# Altium integrated library Silicon Labs Capacitive Touch Sense MCUs.IntLib: 96 symbols (part 4 of 5)
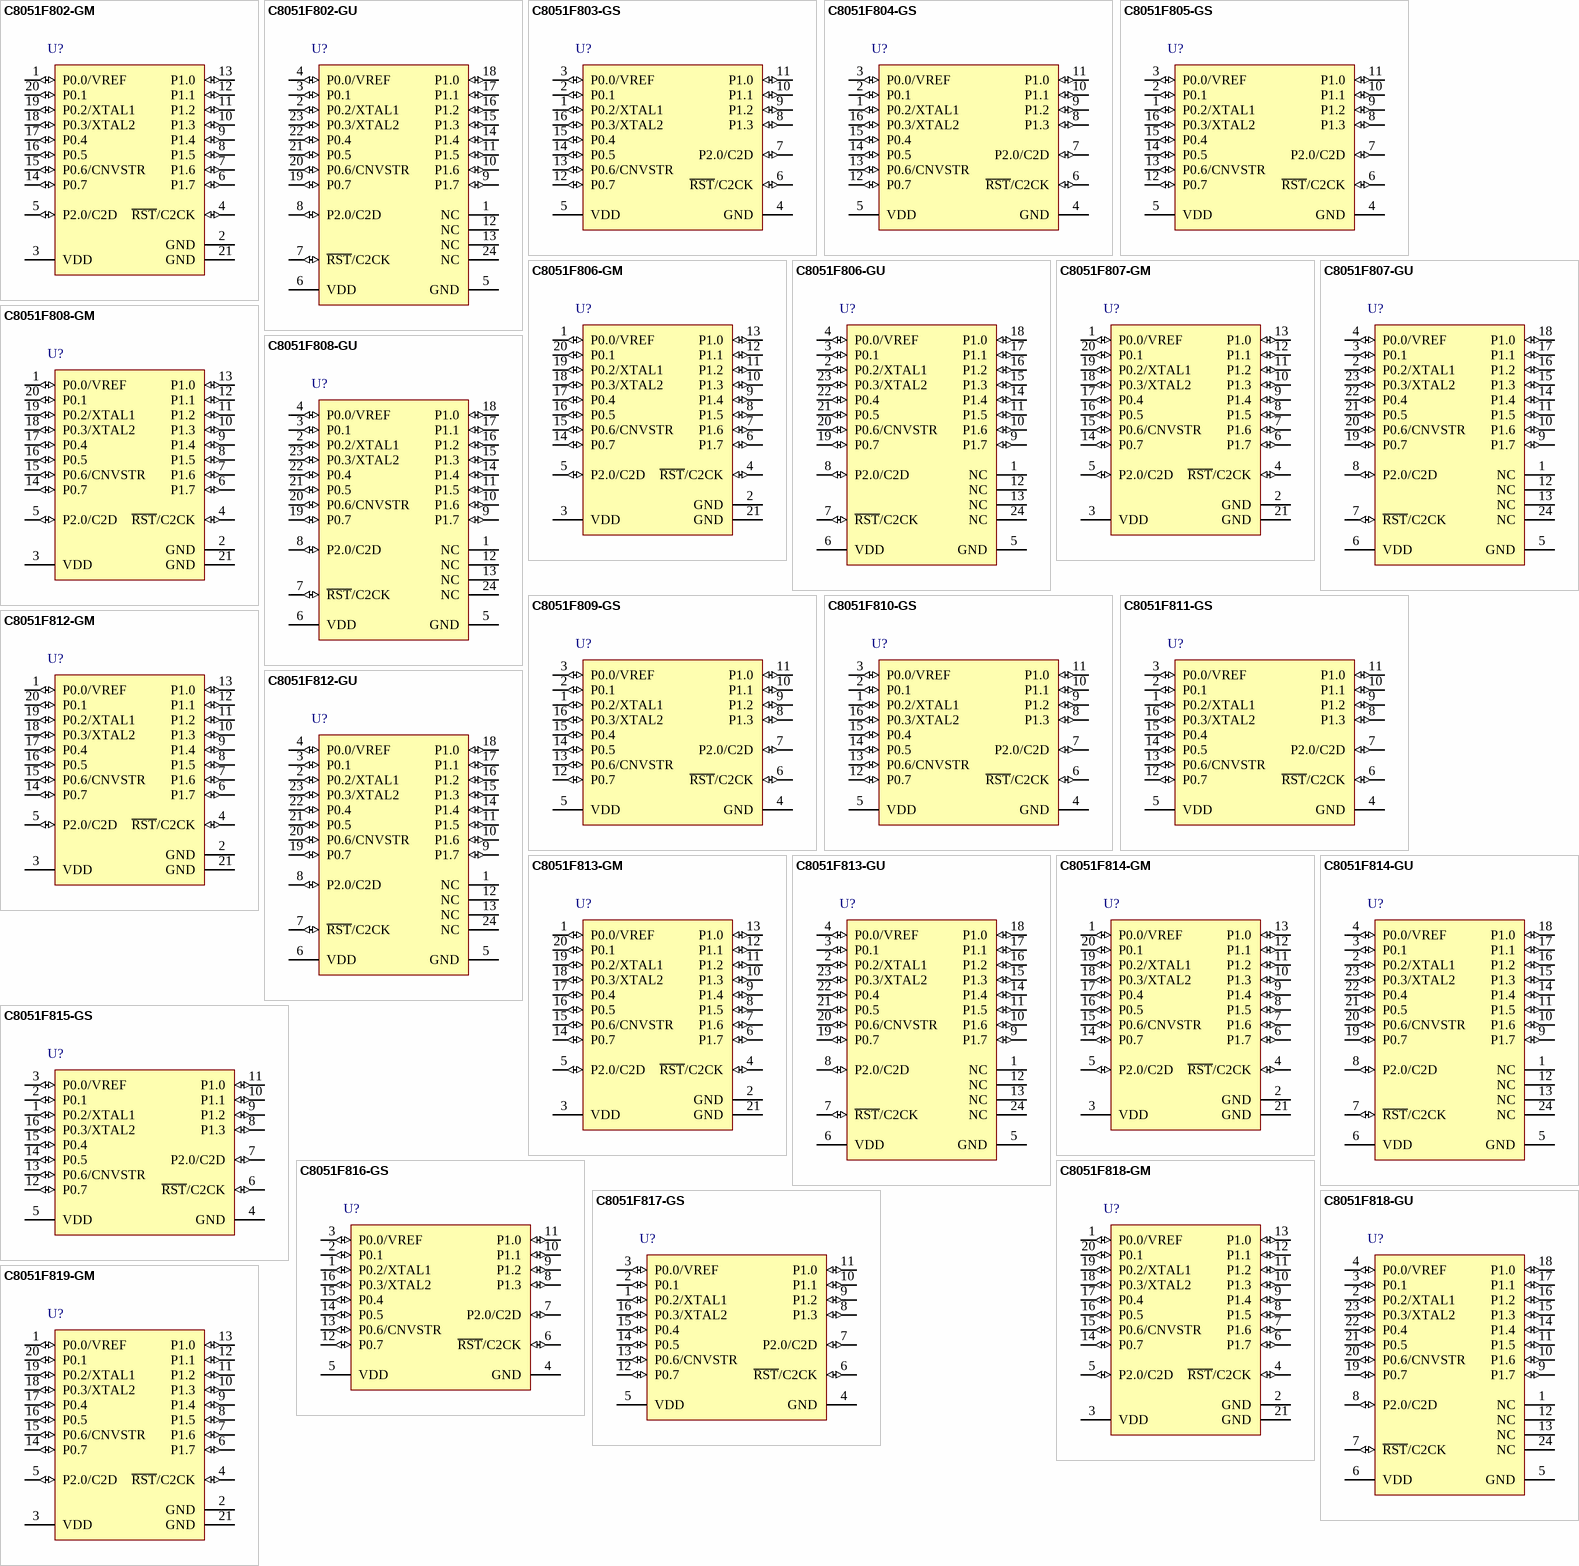
[diagram p9: symbols C8051F802-GM to C8051F819-GM]

## C8051F819-GM
designator U?
Mixed Signal ISP Flash MCU Family, 25 MHz, 0.5 kB RAM, 8 kB Flash, -40 to 85 degC, 20-pin QFN; Manufacturer: Silicon Labs; PartNumber: C8051F819-GM; AEC-Q100: FALSE; Comparators: 1; Debug Interface: C2; Dig I/O Pins: 17; Flash: 8 kB; Internal Osc. Accuracy: +/-2%; MCU Core: 8051; MHz: 25; PCA Channels: 3; RAM: 0.5 kB; Sub-Family: Capacitive Touch Sense MCUs; DatasheetVersion: Rev. 1.0; PackageReference: QFN-20; PackageDescription: 20-Pin Quad-Flat No-Leads Package, Body 4 x 4 mm, Pitch 0.5 mm; Supplier 1: Digi-Key; Supplier Part Number 1: 336-1799-5-ND; Supplier 2: Mouser; Supplier Part Number 2: 634-C8051F819-GM; Temp Sensor: FALSE; Timers (16-bit): 3; Mounting Technology: Surface Mount; Code_JEDEC: MO-220; Code_IPC: J-STD-020; ComponentLink1Description: Manufacturer URL; ComponentLink1URL: http://www.silabs.com/; ComponentLink2Description: Datasheet; ComponentLink2URL: http://www.silabs.com/Support Documents/TechnicalDocs/C8051F80x-83x.pdf; ComponentLink3Description: Package Specification; ComponentLink3URL: http://www.silabs.com/Support%20Documents/TechnicalDocs/C8051F80x-83x.pdf
footprint SLAB-QFN-20-2125x2125TP_N (QFN, 20-Leads, Body 4x4mm, Pitch 0.5mm, Thermal Pad 2.13x2.13mm, IPC Medium Density)
footprint SLAB-QFN-20-2125x2125TP_L (QFN, 20-Leads, Body 4x4mm, Pitch 0.5mm, Thermal Pad 2.13x2.13mm, IPC High Density)
footprint SLAB-QFN-20-2125x2125TP_M (QFN, 20-Leads, Body 4x4mm, Pitch 0.5mm, Thermal Pad 2.13x2.13mm, IPC Low Density)
pins: 1 P0.0/VREF (io), 2 GND (power) "Ground.", 3 VDD (power) "Power Supply Voltage.", 4 ~{RST}/C2CK (io), 5 P2.0/C2D (io), 6 P1.7 (io) "Port 1.7.", 7 P1.6 (io) "Port 1.6.", 8 P1.5 (io) "Port 1.5.", 9 P1.4 (io) "Port 1.4.", 10 P1.3 (io) "Port 1.3.", 11 P1.2 (io) "Port 1.2.", 12 P1.1 (io) "Port 1.1.", 13 P1.0 (io) "Port 1.0.", 14 P0.7 (io) "Port 0.7.", 15 P0.6/CNVSTR (io), 16 P0.5 (io) "Port 0.5.", 17 P0.4 (io) "Port 0.4.", 18 P0.3/XTAL2 (io), 19 P0.2/XTAL1 (io), 20 P0.1 (io) "Port 0.1.", 21 GND (power) "This ground connection is required. The center  pad may optionally be connected to ground as  well on the QFN-20 packages."

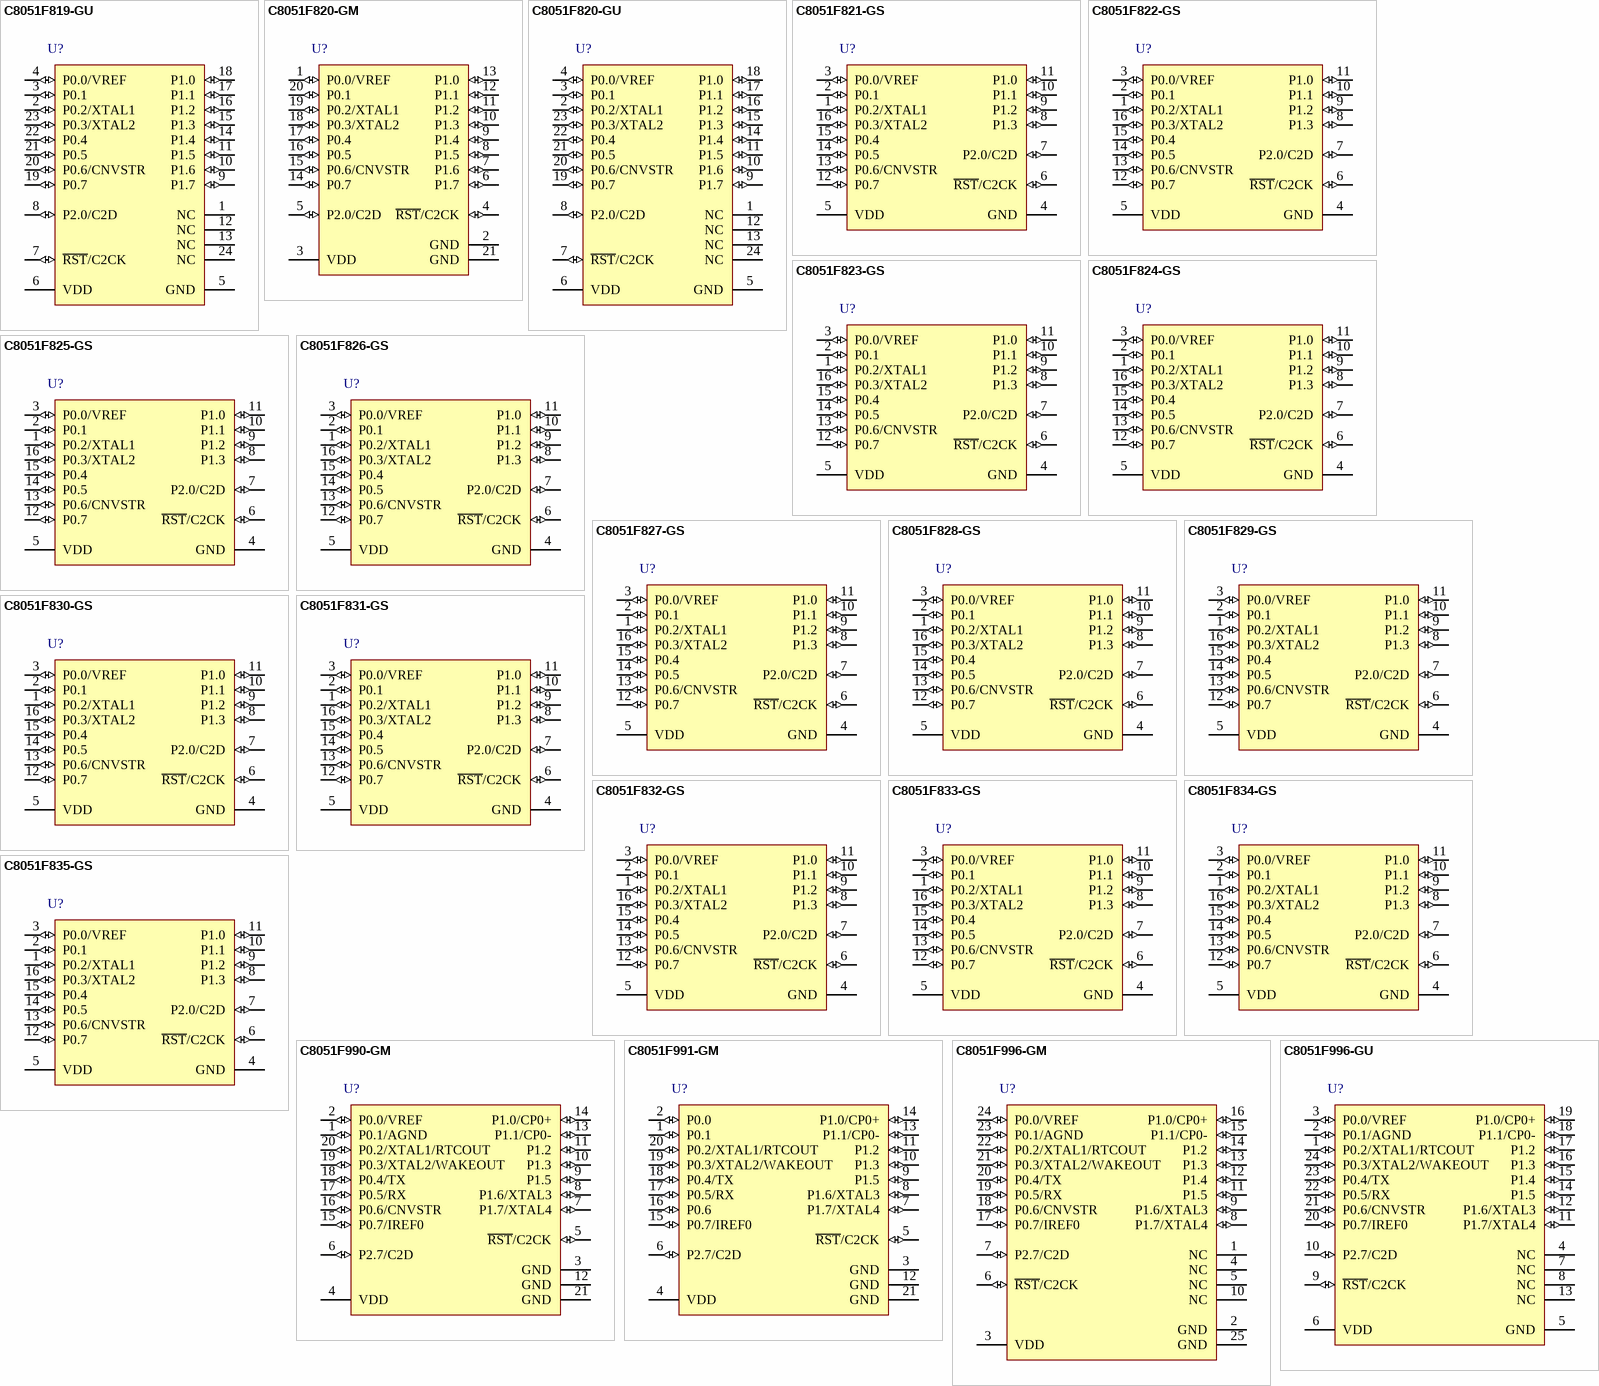
[diagram p3: symbols C8051F819-GU to C8051F996-GU]

## C8051F819-GU
designator U?
Mixed Signal ISP Flash MCU Family, 25 MHz, 0.5 kB RAM, 8 kB Flash, -40 to 85 degC, 24-pin SOP; Manufacturer: Silicon Labs; PartNumber: C8051F819-GU; AEC-Q100: FALSE; Comparators: 1; Debug Interface: C2; Dig I/O Pins: 17; Flash: 8 kB; Internal Osc. Accuracy: +/-2%; MCU Core: 8051; MHz: 25; PCA Channels: 3; RAM: 0.5 kB; Sub-Family: Capacitive Touch Sense MCUs; DatasheetVersion: Rev. 1.0; PackageReference: QSOP-24; PackageDescription: 24-Pin Quarter-Size Small-Outline Package, Body 8.65 x 3.9 mm, Pitch 0.635 mm; Supplier 1: Digi-Key; Supplier Part Number 1: 336-1794-5-ND; Supplier 2: Mouser; Supplier Part Number 2: 634-C8051F819-GU; Temp Sensor: FALSE; Timers (16-bit): 3; Mounting Technology: Surface Mount; Code_JEDEC: MO-147; Code_IPC: J-STD-020; ComponentLink1Description: Manufacturer URL; ComponentLink1URL: http://www.silabs.com/; ComponentLink2Description: Datasheet; ComponentLink2URL: http://www.silabs.com/Support Documents/TechnicalDocs/C8051F80x-83x.pdf; ComponentLink3Description: Package Specification; ComponentLink3URL: http://www.silabs.com/Support%20Documents/TechnicalDocs/C8051F99x.pdf
footprint SLAB-QSOP-24_N (SOP, 24-Leads, Body 8.65x3.9mm, Pitch 0.635mm, IPC Medium Density)
footprint SLAB-QSOP-24_L (SOP, 24-Leads, Body 8.65x3.9mm, Pitch 0.635mm, IPC High Density)
footprint SLAB-QSOP-24_M (SOP, 24-Leads, Body 8.65x3.9mm, Pitch 0.635mm, IPC Low Density)
pins: 1 NC "No Connection.", 2 P0.2/XTAL1 (io), 3 P0.1 (io) "Port 0.1.", 4 P0.0/VREF (io), 5 GND (power) "Ground. This ground connection is required. The center pad may optionally be connected to ground as well on the QFN-20 packages.", 6 VDD (power) "Power Supply Voltage.", 7 ~{RST}/C2CK (io), 8 P2.0/C2D (io), 9 P1.7 (io) "Port 1.7.", 10 P1.6 (io) "Port 1.6.", 11 P1.5 (io) "Port 1.5.", 12 NC "No Connection.", 13 NC "No Connection.", 14 P1.4 (io) "Port 1.4.", 15 P1.3 (io) "Port 1.3.", 16 P1.2 (io) "Port 1.2.", 17 P1.1 (io) "Port 1.1.", 18 P1.0 (io) "Port 1.0.", 19 P0.7 (io) "Port 0.7.", 20 P0.6/CNVSTR (io), 21 P0.5 (io) "Port 0.5.", 22 P0.4 (io) "Port 0.4.", 23 P0.3/XTAL2 (io), 24 NC "No Connection."

## C8051F820-GM
designator U?
Mixed Signal ISP Flash MCU Family, 25 MHz, 0.5 kB RAM, 8 kB Flash, -40 to 85 degC, 20-pin QFN; Manufacturer: Silicon Labs; PartNumber: C8051F820-GM; AEC-Q100: FALSE; Comparators: 1; Debug Interface: C2; Dig I/O Pins: 17; Flash: 8 kB; Internal Osc. Accuracy: +/-2%; MCU Core: 8051; MHz: 25; PCA Channels: 3; RAM: 0.5 kB; Sub-Family: Capacitive Touch Sense MCUs; DatasheetVersion: Rev. 1.0; PackageReference: QFN-20; PackageDescription: 20-Pin Quad-Flat No-Leads Package, Body 4 x 4 mm, Pitch 0.5 mm; Supplier 1: Digi-Key; Supplier Part Number 1: 336-1800-5-ND; Supplier 2: Mouser; Supplier Part Number 2: 634-C8051F820-GM; Temp Sensor: FALSE; Timers (16-bit): 3; Mounting Technology: Surface Mount; Code_JEDEC: MO-220; Code_IPC: J-STD-020; ComponentLink1Description: Manufacturer URL; ComponentLink1URL: http://www.silabs.com/; ComponentLink2Description: Datasheet; ComponentLink2URL: http://www.silabs.com/Support Documents/TechnicalDocs/C8051F80x-83x.pdf; ComponentLink3Description: Package Specification; ComponentLink3URL: http://www.silabs.com/Support%20Documents/TechnicalDocs/C8051F80x-83x.pdf
footprint SLAB-QFN-20-2125x2125TP_N (QFN, 20-Leads, Body 4x4mm, Pitch 0.5mm, Thermal Pad 2.13x2.13mm, IPC Medium Density)
footprint SLAB-QFN-20-2125x2125TP_L (QFN, 20-Leads, Body 4x4mm, Pitch 0.5mm, Thermal Pad 2.13x2.13mm, IPC High Density)
footprint SLAB-QFN-20-2125x2125TP_M (QFN, 20-Leads, Body 4x4mm, Pitch 0.5mm, Thermal Pad 2.13x2.13mm, IPC Low Density)
pins: 1 P0.0/VREF (io), 2 GND (power) "Ground.", 3 VDD (power) "Power Supply Voltage.", 4 ~{RST}/C2CK (io), 5 P2.0/C2D (io), 6 P1.7 (io) "Port 1.7.", 7 P1.6 (io) "Port 1.6.", 8 P1.5 (io) "Port 1.5.", 9 P1.4 (io) "Port 1.4.", 10 P1.3 (io) "Port 1.3.", 11 P1.2 (io) "Port 1.2.", 12 P1.1 (io) "Port 1.1.", 13 P1.0 (io) "Port 1.0.", 14 P0.7 (io) "Port 0.7.", 15 P0.6/CNVSTR (io), 16 P0.5 (io) "Port 0.5.", 17 P0.4 (io) "Port 0.4.", 18 P0.3/XTAL2 (io), 19 P0.2/XTAL1 (io), 20 P0.1 (io) "Port 0.1.", 21 GND (power) "This ground connection is required. The center  pad may optionally be connected to ground as  well on the QFN-20 packages."

## C8051F820-GU
designator U?
Mixed Signal ISP Flash MCU Family, 25 MHz, 0.5 kB RAM, 8 kB Flash, -40 to 85 degC, 24-pin SOP; Manufacturer: Silicon Labs; PartNumber: C8051F820-GU; AEC-Q100: FALSE; Comparators: 1; Debug Interface: C2; Dig I/O Pins: 17; Flash: 8 kB; Internal Osc. Accuracy: +/-2%; MCU Core: 8051; MHz: 25; PCA Channels: 3; RAM: 0.5 kB; Sub-Family: Capacitive Touch Sense MCUs; DatasheetVersion: Rev. 1.0; PackageReference: QSOP-24; PackageDescription: 24-Pin Quarter-Size Small-Outline Package, Body 8.65 x 3.9 mm, Pitch 0.635 mm; Supplier 1: Digi-Key; Supplier Part Number 1: 336-1795-5-ND; Supplier 2: Mouser; Supplier Part Number 2: 634-C8051F820-GU; Temp Sensor: FALSE; Timers (16-bit): 3; Mounting Technology: Surface Mount; Code_JEDEC: MO-147; Code_IPC: J-STD-020; ComponentLink1Description: Manufacturer URL; ComponentLink1URL: http://www.silabs.com/; ComponentLink2Description: Datasheet; ComponentLink2URL: http://www.silabs.com/Support Documents/TechnicalDocs/C8051F80x-83x.pdf; ComponentLink3Description: Package Specification; ComponentLink3URL: http://www.silabs.com/Support%20Documents/TechnicalDocs/C8051F99x.pdf
footprint SLAB-QSOP-24_N (SOP, 24-Leads, Body 8.65x3.9mm, Pitch 0.635mm, IPC Medium Density)
footprint SLAB-QSOP-24_L (SOP, 24-Leads, Body 8.65x3.9mm, Pitch 0.635mm, IPC High Density)
footprint SLAB-QSOP-24_M (SOP, 24-Leads, Body 8.65x3.9mm, Pitch 0.635mm, IPC Low Density)
pins: 1 NC "No Connection.", 2 P0.2/XTAL1 (io), 3 P0.1 (io) "Port 0.1.", 4 P0.0/VREF (io), 5 GND (power) "Ground. This ground connection is required. The center pad may optionally be connected to ground as well on the QFN-20 packages.", 6 VDD (power) "Power Supply Voltage.", 7 ~{RST}/C2CK (io), 8 P2.0/C2D (io), 9 P1.7 (io) "Port 1.7.", 10 P1.6 (io) "Port 1.6.", 11 P1.5 (io) "Port 1.5.", 12 NC "No Connection.", 13 NC "No Connection.", 14 P1.4 (io) "Port 1.4.", 15 P1.3 (io) "Port 1.3.", 16 P1.2 (io) "Port 1.2.", 17 P1.1 (io) "Port 1.1.", 18 P1.0 (io) "Port 1.0.", 19 P0.7 (io) "Port 0.7.", 20 P0.6/CNVSTR (io), 21 P0.5 (io) "Port 0.5.", 22 P0.4 (io) "Port 0.4.", 23 P0.3/XTAL2 (io), 24 NC "No Connection."

## C8051F821-GS
designator U?
Mixed Signal ISP Flash MCU Family, 25 MHz, 0.5 kB RAM, 8 kB Flash, -40 to 85 degC, 16-pin SOIC; Manufacturer: Silicon Labs; PartNumber: C8051F821-GS; AEC-Q100: FALSE; Comparators: 1; Debug Interface: C2; Dig I/O Pins: 13; Flash: 8 kB; Internal Osc. Accuracy: +/-2%; MCU Core: 8051; MHz: 25; PCA Channels: 3; RAM: 0.5 kB; Sub-Family: Capacitive Touch Sense MCUs; DatasheetVersion: Rev. 1.0; PackageReference: SOIC-16-NB; PackageDescription: 16-Pin Small-Outline Integrated Circuit, Body 9.9 x 3.9 mm, Pitch 1.27 mm; Supplier 1: Digi-Key; Supplier Part Number 1: 336-1801-5-ND; Supplier 2: Mouser; Supplier Part Number 2: 634-C8051F821-GS; Temp Sensor: FALSE; Timers (16-bit): 3; Mounting Technology: Surface Mount; Code_JEDEC: MS-012; Code_IPC: J-STD-020; ComponentLink1Description: Manufacturer URL; ComponentLink1URL: http://www.silabs.com/; ComponentLink2Description: Datasheet; ComponentLink2URL: http://www.silabs.com/Support Documents/TechnicalDocs/C8051F80x-83x.pdf; ComponentLink3Description: Package Specification; ComponentLink3URL: http://www.silabs.com/Support%20Documents/TechnicalDocs/si2401.pdf
footprint SLAB-SOIC-16-NB_N (SOIC, 16-Leads, Body 9.9x3.9mm, Pitch 1.27mm, IPC Medium Density)
footprint SLAB-SOIC-16-NB_L (SOIC, 16-Leads, Body 9.9x3.9mm, Pitch 1.27mm, IPC High Density)
footprint SLAB-SOIC-16-NB_M (SOIC, 16-Leads, Body 9.9x3.9mm, Pitch 1.27mm, IPC Low Density)
pins: 1 P0.2/XTAL1 (io), 2 P0.1 (io) "Port 0.1.", 3 P0.0/VREF (io), 4 GND (power) "Ground.", 5 VDD (power) "Power Supply Voltage.", 6 ~{RST}/C2CK (io), 7 P2.0/C2D (io), 8 P1.3 (io) "Port 1.3.", 9 P1.2 (io) "Port 1.2.", 10 P1.1 (io) "Port 1.1.", 11 P1.0 (io) "Port 1.0.", 12 P0.7 (io) "Port 0.7.", 13 P0.6/CNVSTR (io), 14 P0.5 (io) "Port 0.5.", 15 P0.4 (io) "Port 0.4.", 16 P0.3/XTAL2 (io)

## C8051F822-GS
designator U?
Mixed Signal ISP Flash MCU Family, 25 MHz, 0.5 kB RAM, 8 kB Flash, -40 to 85 degC, 16-pin SOIC; Manufacturer: Silicon Labs; PartNumber: C8051F822-GS; AEC-Q100: FALSE; Comparators: 1; Debug Interface: C2; Dig I/O Pins: 13; Flash: 8 kB; Internal Osc. Accuracy: +/-2%; MCU Core: 8051; MHz: 25; PCA Channels: 3; RAM: 0.5 kB; Sub-Family: Capacitive Touch Sense MCUs; DatasheetVersion: Rev. 1.0; PackageReference: SOIC-16-NB; PackageDescription: 16-Pin Small-Outline Integrated Circuit, Body 9.9 x 3.9 mm, Pitch 1.27 mm; Supplier 1: Digi-Key; Supplier Part Number 1: 336-1802-5-ND; Supplier 2: Mouser; Supplier Part Number 2: 634-C8051F822-GS; Temp Sensor: FALSE; Timers (16-bit): 3; Mounting Technology: Surface Mount; Code_JEDEC: MS-012; Code_IPC: J-STD-020; ComponentLink1Description: Manufacturer URL; ComponentLink1URL: http://www.silabs.com/; ComponentLink2Description: Datasheet; ComponentLink2URL: http://www.silabs.com/Support Documents/TechnicalDocs/C8051F80x-83x.pdf; ComponentLink3Description: Package Specification; ComponentLink3URL: http://www.silabs.com/Support%20Documents/TechnicalDocs/si2401.pdf
footprint SLAB-SOIC-16-NB_N (SOIC, 16-Leads, Body 9.9x3.9mm, Pitch 1.27mm, IPC Medium Density)
footprint SLAB-SOIC-16-NB_L (SOIC, 16-Leads, Body 9.9x3.9mm, Pitch 1.27mm, IPC High Density)
footprint SLAB-SOIC-16-NB_M (SOIC, 16-Leads, Body 9.9x3.9mm, Pitch 1.27mm, IPC Low Density)
pins: 1 P0.2/XTAL1 (io), 2 P0.1 (io) "Port 0.1.", 3 P0.0/VREF (io), 4 GND (power) "Ground.", 5 VDD (power) "Power Supply Voltage.", 6 ~{RST}/C2CK (io), 7 P2.0/C2D (io), 8 P1.3 (io) "Port 1.3.", 9 P1.2 (io) "Port 1.2.", 10 P1.1 (io) "Port 1.1.", 11 P1.0 (io) "Port 1.0.", 12 P0.7 (io) "Port 0.7.", 13 P0.6/CNVSTR (io), 14 P0.5 (io) "Port 0.5.", 15 P0.4 (io) "Port 0.4.", 16 P0.3/XTAL2 (io)

## C8051F823-GS
designator U?
Mixed Signal ISP Flash MCU Family, 25 MHz, 0.5 kB RAM, 8 kB Flash, -40 to 85 degC, 16-pin SOIC; Manufacturer: Silicon Labs; PartNumber: C8051F823-GS; AEC-Q100: FALSE; Comparators: 1; Debug Interface: C2; Dig I/O Pins: 13; Flash: 8 kB; Internal Osc. Accuracy: +/-2%; MCU Core: 8051; MHz: 25; PCA Channels: 3; RAM: 0.5 kB; Sub-Family: Capacitive Touch Sense MCUs; DatasheetVersion: Rev. 1.0; PackageReference: SOIC-16-NB; PackageDescription: 16-Pin Small-Outline Integrated Circuit, Body 9.9 x 3.9 mm, Pitch 1.27 mm; Supplier 1: Digi-Key; Supplier Part Number 1: 336-1803-5-ND; Supplier 2: Mouser; Supplier Part Number 2: 634-C8051F823-GS; Temp Sensor: FALSE; Timers (16-bit): 3; Mounting Technology: Surface Mount; Code_JEDEC: MS-012; Code_IPC: J-STD-020; ComponentLink1Description: Manufacturer URL; ComponentLink1URL: http://www.silabs.com/; ComponentLink2Description: Datasheet; ComponentLink2URL: http://www.silabs.com/Support Documents/TechnicalDocs/C8051F80x-83x.pdf; ComponentLink3Description: Package Specification; ComponentLink3URL: http://www.silabs.com/Support%20Documents/TechnicalDocs/si2401.pdf
footprint SLAB-SOIC-16-NB_N (SOIC, 16-Leads, Body 9.9x3.9mm, Pitch 1.27mm, IPC Medium Density)
footprint SLAB-SOIC-16-NB_L (SOIC, 16-Leads, Body 9.9x3.9mm, Pitch 1.27mm, IPC High Density)
footprint SLAB-SOIC-16-NB_M (SOIC, 16-Leads, Body 9.9x3.9mm, Pitch 1.27mm, IPC Low Density)
pins: 1 P0.2/XTAL1 (io), 2 P0.1 (io) "Port 0.1.", 3 P0.0/VREF (io), 4 GND (power) "Ground.", 5 VDD (power) "Power Supply Voltage.", 6 ~{RST}/C2CK (io), 7 P2.0/C2D (io), 8 P1.3 (io) "Port 1.3.", 9 P1.2 (io) "Port 1.2.", 10 P1.1 (io) "Port 1.1.", 11 P1.0 (io) "Port 1.0.", 12 P0.7 (io) "Port 0.7.", 13 P0.6/CNVSTR (io), 14 P0.5 (io) "Port 0.5.", 15 P0.4 (io) "Port 0.4.", 16 P0.3/XTAL2 (io)

## C8051F824-GS
designator U?
Mixed Signal ISP Flash MCU Family, 25 MHz, 0.25 kB RAM, 8 kB Flash, -40 to 85 degC, 16-pin SOIC; Manufacturer: Silicon Labs; PartNumber: C8051F824-GS; ADC 1: 10-bit, 12-ch., 500 ksps; AEC-Q100: FALSE; Comparators: 1; Debug Interface: C2; Dig I/O Pins: 13; Flash: 8 kB; Internal Osc. Accuracy: +/-2%; MCU Core: 8051; MHz: 25; PCA Channels: 3; RAM: 0.25 kB; Temp Sensor: TRUE; Sub-Family: Capacitive Touch Sense MCUs; DatasheetVersion: Rev. 1.0; PackageReference: SOIC-16-NB; PackageDescription: 16-Pin Small-Outline Integrated Circuit, Body 9.9 x 3.9 mm, Pitch 1.27 mm; Supplier 1: Digi-Key; Supplier Part Number 1: 336-1804-5-ND; Supplier 2: Mouser; Supplier Part Number 2: 634-C8051F824-GS; Timers (16-bit): 3; Mounting Technology: Surface Mount; Code_JEDEC: MS-012; Code_IPC: J-STD-020; ComponentLink1Description: Manufacturer URL; ComponentLink1URL: http://www.silabs.com/; ComponentLink2Description: Datasheet; ComponentLink2URL: http://www.silabs.com/Support Documents/TechnicalDocs/C8051F80x-83x.pdf; ComponentLink3Description: Package Specification; ComponentLink3URL: http://www.silabs.com/Support%20Documents/TechnicalDocs/si2401.pdf
footprint SLAB-SOIC-16-NB_N (SOIC, 16-Leads, Body 9.9x3.9mm, Pitch 1.27mm, IPC Medium Density)
footprint SLAB-SOIC-16-NB_L (SOIC, 16-Leads, Body 9.9x3.9mm, Pitch 1.27mm, IPC High Density)
footprint SLAB-SOIC-16-NB_M (SOIC, 16-Leads, Body 9.9x3.9mm, Pitch 1.27mm, IPC Low Density)
pins: 1 P0.2/XTAL1 (io), 2 P0.1 (io) "Port 0.1.", 3 P0.0/VREF (io), 4 GND (power) "Ground.", 5 VDD (power) "Power Supply Voltage.", 6 ~{RST}/C2CK (io), 7 P2.0/C2D (io), 8 P1.3 (io) "Port 1.3.", 9 P1.2 (io) "Port 1.2.", 10 P1.1 (io) "Port 1.1.", 11 P1.0 (io) "Port 1.0.", 12 P0.7 (io) "Port 0.7.", 13 P0.6/CNVSTR (io), 14 P0.5 (io) "Port 0.5.", 15 P0.4 (io) "Port 0.4.", 16 P0.3/XTAL2 (io)

## C8051F825-GS
designator U?
Mixed Signal ISP Flash MCU Family, 25 MHz, 0.25 kB RAM, 8 kB Flash, -40 to 85 degC, 16-pin SOIC; Manufacturer: Silicon Labs; PartNumber: C8051F825-GS; ADC 1: 10-bit, 12-ch., 500 ksps; AEC-Q100: FALSE; Comparators: 1; Debug Interface: C2; Dig I/O Pins: 13; Flash: 8 kB; Internal Osc. Accuracy: +/-2%; MCU Core: 8051; MHz: 25; PCA Channels: 3; RAM: 0.25 kB; Temp Sensor: TRUE; Sub-Family: Capacitive Touch Sense MCUs; DatasheetVersion: Rev. 1.0; PackageReference: SOIC-16-NB; PackageDescription: 16-Pin Small-Outline Integrated Circuit, Body 9.9 x 3.9 mm, Pitch 1.27 mm; Supplier 1: Digi-Key; Supplier Part Number 1: 336-1805-5-ND; Supplier 2: Mouser; Supplier Part Number 2: 634-C8051F825-GS; Timers (16-bit): 3; Mounting Technology: Surface Mount; Code_JEDEC: MS-012; Code_IPC: J-STD-020; ComponentLink1Description: Manufacturer URL; ComponentLink1URL: http://www.silabs.com/; ComponentLink2Description: Datasheet; ComponentLink2URL: http://www.silabs.com/Support Documents/TechnicalDocs/C8051F80x-83x.pdf; ComponentLink3Description: Package Specification; ComponentLink3URL: http://www.silabs.com/Support%20Documents/TechnicalDocs/si2401.pdf
footprint SLAB-SOIC-16-NB_N (SOIC, 16-Leads, Body 9.9x3.9mm, Pitch 1.27mm, IPC Medium Density)
footprint SLAB-SOIC-16-NB_L (SOIC, 16-Leads, Body 9.9x3.9mm, Pitch 1.27mm, IPC High Density)
footprint SLAB-SOIC-16-NB_M (SOIC, 16-Leads, Body 9.9x3.9mm, Pitch 1.27mm, IPC Low Density)
pins: 1 P0.2/XTAL1 (io), 2 P0.1 (io) "Port 0.1.", 3 P0.0/VREF (io), 4 GND (power) "Ground.", 5 VDD (power) "Power Supply Voltage.", 6 ~{RST}/C2CK (io), 7 P2.0/C2D (io), 8 P1.3 (io) "Port 1.3.", 9 P1.2 (io) "Port 1.2.", 10 P1.1 (io) "Port 1.1.", 11 P1.0 (io) "Port 1.0.", 12 P0.7 (io) "Port 0.7.", 13 P0.6/CNVSTR (io), 14 P0.5 (io) "Port 0.5.", 15 P0.4 (io) "Port 0.4.", 16 P0.3/XTAL2 (io)

## C8051F826-GS
designator U?
Mixed Signal ISP Flash MCU Family, 25 MHz, 0.25 kB RAM, 8 kB Flash, -40 to 85 degC, 16-pin SOIC; Manufacturer: Silicon Labs; PartNumber: C8051F826-GS; ADC 1: 10-bit, 12-ch., 500 ksps; AEC-Q100: FALSE; Comparators: 1; Debug Interface: C2; Dig I/O Pins: 13; Flash: 8 kB; Internal Osc. Accuracy: +/-2%; MCU Core: 8051; MHz: 25; PCA Channels: 3; RAM: 0.25 kB; Temp Sensor: TRUE; Sub-Family: Capacitive Touch Sense MCUs; DatasheetVersion: Rev. 1.0; PackageReference: SOIC-16-NB; PackageDescription: 16-Pin Small-Outline Integrated Circuit, Body 9.9 x 3.9 mm, Pitch 1.27 mm; Supplier 1: Digi-Key; Supplier Part Number 1: 336-1806-5-ND; Supplier 2: Mouser; Supplier Part Number 2: 634-C8051F826-GS; Timers (16-bit): 3; Mounting Technology: Surface Mount; Code_JEDEC: MS-012; Code_IPC: J-STD-020; ComponentLink1Description: Manufacturer URL; ComponentLink1URL: http://www.silabs.com/; ComponentLink2Description: Datasheet; ComponentLink2URL: http://www.silabs.com/Support Documents/TechnicalDocs/C8051F80x-83x.pdf; ComponentLink3Description: Package Specification; ComponentLink3URL: http://www.silabs.com/Support%20Documents/TechnicalDocs/si2401.pdf
footprint SLAB-SOIC-16-NB_N (SOIC, 16-Leads, Body 9.9x3.9mm, Pitch 1.27mm, IPC Medium Density)
footprint SLAB-SOIC-16-NB_L (SOIC, 16-Leads, Body 9.9x3.9mm, Pitch 1.27mm, IPC High Density)
footprint SLAB-SOIC-16-NB_M (SOIC, 16-Leads, Body 9.9x3.9mm, Pitch 1.27mm, IPC Low Density)
pins: 1 P0.2/XTAL1 (io), 2 P0.1 (io) "Port 0.1.", 3 P0.0/VREF (io), 4 GND (power) "Ground.", 5 VDD (power) "Power Supply Voltage.", 6 ~{RST}/C2CK (io), 7 P2.0/C2D (io), 8 P1.3 (io) "Port 1.3.", 9 P1.2 (io) "Port 1.2.", 10 P1.1 (io) "Port 1.1.", 11 P1.0 (io) "Port 1.0.", 12 P0.7 (io) "Port 0.7.", 13 P0.6/CNVSTR (io), 14 P0.5 (io) "Port 0.5.", 15 P0.4 (io) "Port 0.4.", 16 P0.3/XTAL2 (io)

## C8051F827-GS
designator U?
Mixed Signal ISP Flash MCU Family, 25 MHz, 0.25 kB RAM, 8 kB Flash, -40 to 85 degC, 16-pin SOIC; Manufacturer: Silicon Labs; PartNumber: C8051F827-GS; AEC-Q100: FALSE; Comparators: 1; Debug Interface: C2; Dig I/O Pins: 13; Flash: 8 kB; Internal Osc. Accuracy: +/-2%; MCU Core: 8051; MHz: 25; PCA Channels: 3; RAM: 0.25 kB; Sub-Family: Capacitive Touch Sense MCUs; DatasheetVersion: Rev. 1.0; PackageReference: SOIC-16-NB; PackageDescription: 16-Pin Small-Outline Integrated Circuit, Body 9.9 x 3.9 mm, Pitch 1.27 mm; Supplier 1: Digi-Key; Supplier Part Number 1: 336-1807-5-ND; Supplier 2: Mouser; Supplier Part Number 2: 634-C8051F827-GS; Temp Sensor: FALSE; Timers (16-bit): 3; Mounting Technology: Surface Mount; Code_JEDEC: MS-012; Code_IPC: J-STD-020; ComponentLink1Description: Manufacturer URL; ComponentLink1URL: http://www.silabs.com/; ComponentLink2Description: Datasheet; ComponentLink2URL: http://www.silabs.com/Support Documents/TechnicalDocs/C8051F80x-83x.pdf; ComponentLink3Description: Package Specification; ComponentLink3URL: http://www.silabs.com/Support%20Documents/TechnicalDocs/si2401.pdf
footprint SLAB-SOIC-16-NB_N (SOIC, 16-Leads, Body 9.9x3.9mm, Pitch 1.27mm, IPC Medium Density)
footprint SLAB-SOIC-16-NB_L (SOIC, 16-Leads, Body 9.9x3.9mm, Pitch 1.27mm, IPC High Density)
footprint SLAB-SOIC-16-NB_M (SOIC, 16-Leads, Body 9.9x3.9mm, Pitch 1.27mm, IPC Low Density)
pins: 1 P0.2/XTAL1 (io), 2 P0.1 (io) "Port 0.1.", 3 P0.0/VREF (io), 4 GND (power) "Ground.", 5 VDD (power) "Power Supply Voltage.", 6 ~{RST}/C2CK (io), 7 P2.0/C2D (io), 8 P1.3 (io) "Port 1.3.", 9 P1.2 (io) "Port 1.2.", 10 P1.1 (io) "Port 1.1.", 11 P1.0 (io) "Port 1.0.", 12 P0.7 (io) "Port 0.7.", 13 P0.6/CNVSTR (io), 14 P0.5 (io) "Port 0.5.", 15 P0.4 (io) "Port 0.4.", 16 P0.3/XTAL2 (io)

## C8051F828-GS
designator U?
Mixed Signal ISP Flash MCU Family, 25 MHz, 0.25 kB RAM, 8 kB Flash, -40 to 85 degC, 16-pin SOIC; Manufacturer: Silicon Labs; PartNumber: C8051F828-GS; AEC-Q100: FALSE; Comparators: 1; Debug Interface: C2; Dig I/O Pins: 13; Flash: 8 kB; Internal Osc. Accuracy: +/-2%; MCU Core: 8051; MHz: 25; PCA Channels: 3; RAM: 0.25 kB; Sub-Family: Capacitive Touch Sense MCUs; DatasheetVersion: Rev. 1.0; PackageReference: SOIC-16-NB; PackageDescription: 16-Pin Small-Outline Integrated Circuit, Body 9.9 x 3.9 mm, Pitch 1.27 mm; Supplier 1: Digi-Key; Supplier Part Number 1: 336-1808-5-ND; Supplier 2: Mouser; Supplier Part Number 2: 634-C8051F828-GS; Temp Sensor: FALSE; Timers (16-bit): 3; Mounting Technology: Surface Mount; Code_JEDEC: MS-012; Code_IPC: J-STD-020; ComponentLink1Description: Manufacturer URL; ComponentLink1URL: http://www.silabs.com/; ComponentLink2Description: Datasheet; ComponentLink2URL: http://www.silabs.com/Support Documents/TechnicalDocs/C8051F80x-83x.pdf; ComponentLink3Description: Package Specification; ComponentLink3URL: http://www.silabs.com/Support%20Documents/TechnicalDocs/si2401.pdf
footprint SLAB-SOIC-16-NB_N (SOIC, 16-Leads, Body 9.9x3.9mm, Pitch 1.27mm, IPC Medium Density)
footprint SLAB-SOIC-16-NB_L (SOIC, 16-Leads, Body 9.9x3.9mm, Pitch 1.27mm, IPC High Density)
footprint SLAB-SOIC-16-NB_M (SOIC, 16-Leads, Body 9.9x3.9mm, Pitch 1.27mm, IPC Low Density)
pins: 1 P0.2/XTAL1 (io), 2 P0.1 (io) "Port 0.1.", 3 P0.0/VREF (io), 4 GND (power) "Ground.", 5 VDD (power) "Power Supply Voltage.", 6 ~{RST}/C2CK (io), 7 P2.0/C2D (io), 8 P1.3 (io) "Port 1.3.", 9 P1.2 (io) "Port 1.2.", 10 P1.1 (io) "Port 1.1.", 11 P1.0 (io) "Port 1.0.", 12 P0.7 (io) "Port 0.7.", 13 P0.6/CNVSTR (io), 14 P0.5 (io) "Port 0.5.", 15 P0.4 (io) "Port 0.4.", 16 P0.3/XTAL2 (io)

## C8051F829-GS
designator U?
Mixed Signal ISP Flash MCU Family, 25 MHz, 0.25 kB RAM, 8 kB Flash, -40 to 85 degC, 16-pin SOIC; Manufacturer: Silicon Labs; PartNumber: C8051F829-GS; AEC-Q100: FALSE; Comparators: 1; Debug Interface: C2; Dig I/O Pins: 13; Flash: 8 kB; Internal Osc. Accuracy: +/-2%; MCU Core: 8051; MHz: 25; PCA Channels: 3; RAM: 0.25 kB; Sub-Family: Capacitive Touch Sense MCUs; DatasheetVersion: Rev. 1.0; PackageReference: SOIC-16-NB; PackageDescription: 16-Pin Small-Outline Integrated Circuit, Body 9.9 x 3.9 mm, Pitch 1.27 mm; Supplier 1: Digi-Key; Supplier Part Number 1: 336-1809-5-ND; Supplier 2: Mouser; Supplier Part Number 2: 634-C8051F829-GS; Temp Sensor: FALSE; Timers (16-bit): 3; Mounting Technology: Surface Mount; Code_JEDEC: MS-012; Code_IPC: J-STD-020; ComponentLink1Description: Manufacturer URL; ComponentLink1URL: http://www.silabs.com/; ComponentLink2Description: Datasheet; ComponentLink2URL: http://www.silabs.com/Support Documents/TechnicalDocs/C8051F80x-83x.pdf; ComponentLink3Description: Package Specification; ComponentLink3URL: http://www.silabs.com/Support%20Documents/TechnicalDocs/si2401.pdf
footprint SLAB-SOIC-16-NB_N (SOIC, 16-Leads, Body 9.9x3.9mm, Pitch 1.27mm, IPC Medium Density)
footprint SLAB-SOIC-16-NB_L (SOIC, 16-Leads, Body 9.9x3.9mm, Pitch 1.27mm, IPC High Density)
footprint SLAB-SOIC-16-NB_M (SOIC, 16-Leads, Body 9.9x3.9mm, Pitch 1.27mm, IPC Low Density)
pins: 1 P0.2/XTAL1 (io), 2 P0.1 (io) "Port 0.1.", 3 P0.0/VREF (io), 4 GND (power) "Ground.", 5 VDD (power) "Power Supply Voltage.", 6 ~{RST}/C2CK (io), 7 P2.0/C2D (io), 8 P1.3 (io) "Port 1.3.", 9 P1.2 (io) "Port 1.2.", 10 P1.1 (io) "Port 1.1.", 11 P1.0 (io) "Port 1.0.", 12 P0.7 (io) "Port 0.7.", 13 P0.6/CNVSTR (io), 14 P0.5 (io) "Port 0.5.", 15 P0.4 (io) "Port 0.4.", 16 P0.3/XTAL2 (io)

## C8051F830-GS
designator U?
Mixed Signal ISP Flash MCU Family, 25 MHz, 0.25 kB RAM, 4 kB Flash, -40 to 85 degC, 16-pin SOIC; Manufacturer: Silicon Labs; PartNumber: C8051F830-GS; ADC 1: 10-bit, 12-ch., 500 ksps; AEC-Q100: FALSE; Comparators: 1; Debug Interface: C2; Dig I/O Pins: 13; Flash: 4 kB; Internal Osc. Accuracy: +/-2%; MCU Core: 8051; MHz: 25; PCA Channels: 3; RAM: 0.25 kB; Temp Sensor: TRUE; Sub-Family: Capacitive Touch Sense MCUs; DatasheetVersion: Rev. 1.0; PackageReference: SOIC-16-NB; PackageDescription: 16-Pin Small-Outline Integrated Circuit, Body 9.9 x 3.9 mm, Pitch 1.27 mm; Supplier 1: Digi-Key; Supplier Part Number 1: 336-1810-5-ND; Supplier 2: Mouser; Supplier Part Number 2: 634-C8051F830-GS; Timers (16-bit): 3; Mounting Technology: Surface Mount; Code_JEDEC: MS-012; Code_IPC: J-STD-020; ComponentLink1Description: Manufacturer URL; ComponentLink1URL: http://www.silabs.com/; ComponentLink2Description: Datasheet; ComponentLink2URL: http://www.silabs.com/Support Documents/TechnicalDocs/C8051F80x-83x.pdf; ComponentLink3Description: Package Specification; ComponentLink3URL: http://www.silabs.com/Support%20Documents/TechnicalDocs/si2401.pdf
footprint SLAB-SOIC-16-NB_N (SOIC, 16-Leads, Body 9.9x3.9mm, Pitch 1.27mm, IPC Medium Density)
footprint SLAB-SOIC-16-NB_L (SOIC, 16-Leads, Body 9.9x3.9mm, Pitch 1.27mm, IPC High Density)
footprint SLAB-SOIC-16-NB_M (SOIC, 16-Leads, Body 9.9x3.9mm, Pitch 1.27mm, IPC Low Density)
pins: 1 P0.2/XTAL1 (io), 2 P0.1 (io) "Port 0.1.", 3 P0.0/VREF (io), 4 GND (power) "Ground.", 5 VDD (power) "Power Supply Voltage.", 6 ~{RST}/C2CK (io), 7 P2.0/C2D (io), 8 P1.3 (io) "Port 1.3.", 9 P1.2 (io) "Port 1.2.", 10 P1.1 (io) "Port 1.1.", 11 P1.0 (io) "Port 1.0.", 12 P0.7 (io) "Port 0.7.", 13 P0.6/CNVSTR (io), 14 P0.5 (io) "Port 0.5.", 15 P0.4 (io) "Port 0.4.", 16 P0.3/XTAL2 (io)

## C8051F831-GS
designator U?
Mixed Signal ISP Flash MCU Family, 25 MHz, 0.25 kB RAM, 4 kB Flash, -40 to 85 degC, 16-pin SOIC; Manufacturer: Silicon Labs; PartNumber: C8051F831-GS; ADC 1: 10-bit, 12-ch., 500 ksps; AEC-Q100: FALSE; Comparators: 1; Debug Interface: C2; Dig I/O Pins: 13; Flash: 4 kB; Internal Osc. Accuracy: +/-2%; MCU Core: 8051; MHz: 25; PCA Channels: 3; RAM: 0.25 kB; Temp Sensor: TRUE; Sub-Family: Capacitive Touch Sense MCUs; DatasheetVersion: Rev. 1.0; PackageReference: SOIC-16-NB; PackageDescription: 16-Pin Small-Outline Integrated Circuit, Body 9.9 x 3.9 mm, Pitch 1.27 mm; Supplier 1: Digi-Key; Supplier Part Number 1: 336-1811-5-ND; Supplier 2: Mouser; Supplier Part Number 2: 634-C8051F831-GS; Timers (16-bit): 3; Mounting Technology: Surface Mount; Code_JEDEC: MS-012; Code_IPC: J-STD-020; ComponentLink1Description: Manufacturer URL; ComponentLink1URL: http://www.silabs.com/; ComponentLink2Description: Datasheet; ComponentLink2URL: http://www.silabs.com/Support Documents/TechnicalDocs/C8051F80x-83x.pdf; ComponentLink3Description: Package Specification; ComponentLink3URL: http://www.silabs.com/Support%20Documents/TechnicalDocs/si2401.pdf
footprint SLAB-SOIC-16-NB_N (SOIC, 16-Leads, Body 9.9x3.9mm, Pitch 1.27mm, IPC Medium Density)
footprint SLAB-SOIC-16-NB_L (SOIC, 16-Leads, Body 9.9x3.9mm, Pitch 1.27mm, IPC High Density)
footprint SLAB-SOIC-16-NB_M (SOIC, 16-Leads, Body 9.9x3.9mm, Pitch 1.27mm, IPC Low Density)
pins: 1 P0.2/XTAL1 (io), 2 P0.1 (io) "Port 0.1.", 3 P0.0/VREF (io), 4 GND (power) "Ground.", 5 VDD (power) "Power Supply Voltage.", 6 ~{RST}/C2CK (io), 7 P2.0/C2D (io), 8 P1.3 (io) "Port 1.3.", 9 P1.2 (io) "Port 1.2.", 10 P1.1 (io) "Port 1.1.", 11 P1.0 (io) "Port 1.0.", 12 P0.7 (io) "Port 0.7.", 13 P0.6/CNVSTR (io), 14 P0.5 (io) "Port 0.5.", 15 P0.4 (io) "Port 0.4.", 16 P0.3/XTAL2 (io)

## C8051F832-GS
designator U?
Mixed Signal ISP Flash MCU Family, 25 MHz, 0.25 kB RAM, 4 kB Flash, -40 to 85 degC, 16-pin SOIC; Manufacturer: Silicon Labs; PartNumber: C8051F832-GS; ADC 1: 10-bit, 12-ch., 500 ksps; AEC-Q100: FALSE; Comparators: 1; Debug Interface: C2; Dig I/O Pins: 13; Flash: 4 kB; Internal Osc. Accuracy: +/-2%; MCU Core: 8051; MHz: 25; PCA Channels: 3; RAM: 0.25 kB; Temp Sensor: TRUE; Sub-Family: Capacitive Touch Sense MCUs; DatasheetVersion: Rev. 1.0; PackageReference: SOIC-16-NB; PackageDescription: 16-Pin Small-Outline Integrated Circuit, Body 9.9 x 3.9 mm, Pitch 1.27 mm; Supplier 1: Digi-Key; Supplier Part Number 1: 336-1812-5-ND; Supplier 2: Mouser; Supplier Part Number 2: 634-C8051F832-GS; Timers (16-bit): 3; Mounting Technology: Surface Mount; Code_JEDEC: MS-012; Code_IPC: J-STD-020; ComponentLink1Description: Manufacturer URL; ComponentLink1URL: http://www.silabs.com/; ComponentLink2Description: Datasheet; ComponentLink2URL: http://www.silabs.com/Support Documents/TechnicalDocs/C8051F80x-83x.pdf; ComponentLink3Description: Package Specification; ComponentLink3URL: http://www.silabs.com/Support%20Documents/TechnicalDocs/si2401.pdf
footprint SLAB-SOIC-16-NB_N (SOIC, 16-Leads, Body 9.9x3.9mm, Pitch 1.27mm, IPC Medium Density)
footprint SLAB-SOIC-16-NB_L (SOIC, 16-Leads, Body 9.9x3.9mm, Pitch 1.27mm, IPC High Density)
footprint SLAB-SOIC-16-NB_M (SOIC, 16-Leads, Body 9.9x3.9mm, Pitch 1.27mm, IPC Low Density)
pins: 1 P0.2/XTAL1 (io), 2 P0.1 (io) "Port 0.1.", 3 P0.0/VREF (io), 4 GND (power) "Ground.", 5 VDD (power) "Power Supply Voltage.", 6 ~{RST}/C2CK (io), 7 P2.0/C2D (io), 8 P1.3 (io) "Port 1.3.", 9 P1.2 (io) "Port 1.2.", 10 P1.1 (io) "Port 1.1.", 11 P1.0 (io) "Port 1.0.", 12 P0.7 (io) "Port 0.7.", 13 P0.6/CNVSTR (io), 14 P0.5 (io) "Port 0.5.", 15 P0.4 (io) "Port 0.4.", 16 P0.3/XTAL2 (io)

## C8051F833-GS
designator U?
Mixed Signal ISP Flash MCU Family, 25 MHz, 0.25 kB RAM, 4 kB Flash, -40 to 85 degC, 16-pin SOIC; Manufacturer: Silicon Labs; PartNumber: C8051F833-GS; AEC-Q100: FALSE; Comparators: 1; Debug Interface: C2; Dig I/O Pins: 13; Flash: 4 kB; Internal Osc. Accuracy: +/-2%; MCU Core: 8051; MHz: 25; PCA Channels: 3; RAM: 0.25 kB; Sub-Family: Capacitive Touch Sense MCUs; DatasheetVersion: Rev. 1.0; PackageReference: SOIC-16-NB; PackageDescription: 16-Pin Small-Outline Integrated Circuit, Body 9.9 x 3.9 mm, Pitch 1.27 mm; Supplier 1: Digi-Key; Supplier Part Number 1: 336-1813-5-ND; Supplier 2: Mouser; Supplier Part Number 2: 634-C8051F833-GS; Temp Sensor: FALSE; Timers (16-bit): 3; Mounting Technology: Surface Mount; Code_JEDEC: MS-012; Code_IPC: J-STD-020; ComponentLink1Description: Manufacturer URL; ComponentLink1URL: http://www.silabs.com/; ComponentLink2Description: Datasheet; ComponentLink2URL: http://www.silabs.com/Support Documents/TechnicalDocs/C8051F80x-83x.pdf; ComponentLink3Description: Package Specification; ComponentLink3URL: http://www.silabs.com/Support%20Documents/TechnicalDocs/si2401.pdf
footprint SLAB-SOIC-16-NB_N (SOIC, 16-Leads, Body 9.9x3.9mm, Pitch 1.27mm, IPC Medium Density)
footprint SLAB-SOIC-16-NB_L (SOIC, 16-Leads, Body 9.9x3.9mm, Pitch 1.27mm, IPC High Density)
footprint SLAB-SOIC-16-NB_M (SOIC, 16-Leads, Body 9.9x3.9mm, Pitch 1.27mm, IPC Low Density)
pins: 1 P0.2/XTAL1 (io), 2 P0.1 (io) "Port 0.1.", 3 P0.0/VREF (io), 4 GND (power) "Ground.", 5 VDD (power) "Power Supply Voltage.", 6 ~{RST}/C2CK (io), 7 P2.0/C2D (io), 8 P1.3 (io) "Port 1.3.", 9 P1.2 (io) "Port 1.2.", 10 P1.1 (io) "Port 1.1.", 11 P1.0 (io) "Port 1.0.", 12 P0.7 (io) "Port 0.7.", 13 P0.6/CNVSTR (io), 14 P0.5 (io) "Port 0.5.", 15 P0.4 (io) "Port 0.4.", 16 P0.3/XTAL2 (io)

## C8051F834-GS
designator U?
Mixed Signal ISP Flash MCU Family, 25 MHz, 0.25 kB RAM, 4 kB Flash, -40 to 85 degC, 16-pin SOIC; Manufacturer: Silicon Labs; PartNumber: C8051F834-GS; AEC-Q100: FALSE; Comparators: 1; Debug Interface: C2; Dig I/O Pins: 13; Flash: 4 kB; Internal Osc. Accuracy: +/-2%; MCU Core: 8051; MHz: 25; PCA Channels: 3; RAM: 0.25 kB; Sub-Family: Capacitive Touch Sense MCUs; DatasheetVersion: Rev. 1.0; PackageReference: SOIC-16-NB; PackageDescription: 16-Pin Small-Outline Integrated Circuit, Body 9.9 x 3.9 mm, Pitch 1.27 mm; Supplier 1: Digi-Key; Supplier Part Number 1: 336-1814-5-ND; Supplier 2: Mouser; Supplier Part Number 2: 634-C8051F834-GS; Temp Sensor: FALSE; Timers (16-bit): 3; Mounting Technology: Surface Mount; Code_JEDEC: MS-012; Code_IPC: J-STD-020; ComponentLink1Description: Manufacturer URL; ComponentLink1URL: http://www.silabs.com/; ComponentLink2Description: Datasheet; ComponentLink2URL: http://www.silabs.com/Support Documents/TechnicalDocs/C8051F80x-83x.pdf; ComponentLink3Description: Package Specification; ComponentLink3URL: http://www.silabs.com/Support%20Documents/TechnicalDocs/si2401.pdf
footprint SLAB-SOIC-16-NB_N (SOIC, 16-Leads, Body 9.9x3.9mm, Pitch 1.27mm, IPC Medium Density)
footprint SLAB-SOIC-16-NB_L (SOIC, 16-Leads, Body 9.9x3.9mm, Pitch 1.27mm, IPC High Density)
footprint SLAB-SOIC-16-NB_M (SOIC, 16-Leads, Body 9.9x3.9mm, Pitch 1.27mm, IPC Low Density)
pins: 1 P0.2/XTAL1 (io), 2 P0.1 (io) "Port 0.1.", 3 P0.0/VREF (io), 4 GND (power) "Ground.", 5 VDD (power) "Power Supply Voltage.", 6 ~{RST}/C2CK (io), 7 P2.0/C2D (io), 8 P1.3 (io) "Port 1.3.", 9 P1.2 (io) "Port 1.2.", 10 P1.1 (io) "Port 1.1.", 11 P1.0 (io) "Port 1.0.", 12 P0.7 (io) "Port 0.7.", 13 P0.6/CNVSTR (io), 14 P0.5 (io) "Port 0.5.", 15 P0.4 (io) "Port 0.4.", 16 P0.3/XTAL2 (io)

## C8051F835-GS
designator U?
Mixed Signal ISP Flash MCU Family, 25 MHz, 0.25 kB RAM, 4 kB Flash, -40 to 85 degC, 16-pin SOIC; Manufacturer: Silicon Labs; PartNumber: C8051F835-GS; AEC-Q100: FALSE; Comparators: 1; Debug Interface: C2; Dig I/O Pins: 13; Flash: 4 kB; Internal Osc. Accuracy: +/-2%; MCU Core: 8051; MHz: 25; PCA Channels: 3; RAM: 0.25 kB; Sub-Family: Capacitive Touch Sense MCUs; DatasheetVersion: Rev. 1.0; PackageReference: SOIC-16-NB; PackageDescription: 16-Pin Small-Outline Integrated Circuit, Body 9.9 x 3.9 mm, Pitch 1.27 mm; Supplier 1: Digi-Key; Supplier Part Number 1: 336-1815-5-ND; Supplier 2: Mouser; Supplier Part Number 2: 634-C8051F835-GS; Temp Sensor: FALSE; Timers (16-bit): 3; Mounting Technology: Surface Mount; Code_JEDEC: MS-012; Code_IPC: J-STD-020; ComponentLink1Description: Manufacturer URL; ComponentLink1URL: http://www.silabs.com/; ComponentLink2Description: Datasheet; ComponentLink2URL: http://www.silabs.com/Support Documents/TechnicalDocs/C8051F80x-83x.pdf; ComponentLink3Description: Package Specification; ComponentLink3URL: http://www.silabs.com/Support%20Documents/TechnicalDocs/si2401.pdf
footprint SLAB-SOIC-16-NB_N (SOIC, 16-Leads, Body 9.9x3.9mm, Pitch 1.27mm, IPC Medium Density)
footprint SLAB-SOIC-16-NB_L (SOIC, 16-Leads, Body 9.9x3.9mm, Pitch 1.27mm, IPC High Density)
footprint SLAB-SOIC-16-NB_M (SOIC, 16-Leads, Body 9.9x3.9mm, Pitch 1.27mm, IPC Low Density)
pins: 1 P0.2/XTAL1 (io), 2 P0.1 (io) "Port 0.1.", 3 P0.0/VREF (io), 4 GND (power) "Ground.", 5 VDD (power) "Power Supply Voltage.", 6 ~{RST}/C2CK (io), 7 P2.0/C2D (io), 8 P1.3 (io) "Port 1.3.", 9 P1.2 (io) "Port 1.2.", 10 P1.1 (io) "Port 1.1.", 11 P1.0 (io) "Port 1.0.", 12 P0.7 (io) "Port 0.7.", 13 P0.6/CNVSTR (io), 14 P0.5 (io) "Port 0.5.", 15 P0.4 (io) "Port 0.4.", 16 P0.3/XTAL2 (io)

## C8051F990-GM
designator U?
Ultra Low Power, Capacitive Sensing MCU, 25 MHz, 0.5 kB RAM, 8 kB Flash, -40 to 85 degC, 20-pin QFN; Manufacturer: Silicon Labs; PartNumber: C8051F990-GM; ADC 1: 12-bit, 9-ch., 75 ksps; AEC-Q100: FALSE; Comparators: 1; Debug Interface: C2; Dig I/O Pins: 16; Flash: 8 kB; Internal Osc. Accuracy: +/-2%; MCU Core: 8051; MHz: 25; PCA Channels: 3; RAM: 0.5 kB; Temp Sensor: TRUE; Timers (16-bit): 4; Sub-Family: Capacitive Touch Sense MCUs; DatasheetVersion: Rev. 1.1; PackageReference: QFN-20; PackageDescription: 20-Pin Quad-Flat No-Leads Package, Body 3 x 3 mm, Pitch 0.5 mm; Supplier 1: Digi-Key; Supplier Part Number 1: 336-1941-5-ND; Supplier 2: Mouser; Supplier Part Number 2: 634-C8051F990-GM; Mounting Technology: Surface Mount; Code_IPC: J-STD-020; ComponentLink1Description: Manufacturer URL; ComponentLink1URL: http://www.silabs.com/; ComponentLink2Description: Datasheet; ComponentLink2URL: http://www.silabs.com/Support Documents/TechnicalDocs/C8051F99x.pdf; ComponentLink3Description: Package Specification; ComponentLink3URL: http://www.silabs.com/Support%20Documents/TechnicalDocs/C8051F99x.pdf
footprint SLAB-QFN-20-1700x1700TP_V (QFN, 20-Leads, Body 3x3mm, Pitch 0.5mm, Thermal Pad 1.7x1.7mm)
pins: 1 P0.1/AGND (io), 2 P0.0/VREF (io), 3 GND (power) "Required Ground.", 4 VDD (power) "Power Supply Voltage. Must be 1.8 to 3.6 V.", 5 ~{RST}/C2CK (io), 6 P2.7/C2D (io), 7 P1.7/XTAL4 (io), 8 P1.6/XTAL3 (io), 9 P1.5 (io) "Port 1.5.", 10 P1.3 (io) "Port 1.3.", 11 P1.2 (io) "Port 1.2.", 12 GND (power) "Required Ground.", 13 P1.1/CP0- (io), 14 P1.0/CP0+ (io), 15 P0.7/IREF0 (io), 16 P0.6/CNVSTR (io), 17 P0.5/RX (io), 18 P0.4/TX (io), 19 P0.3/XTAL2/WAKEOUT (io), 20 P0.2/XTAL1/RTCOUT (io), 21 GND (power) "Required Ground."

## C8051F991-GM
designator U?
Ultra Low Power, Capacitive Sensing MCU, 25 MHz, 0.5 kB RAM, 8 kB Flash, -40 to 85 degC, 20-pin QFN; Manufacturer: Silicon Labs; PartNumber: C8051F991-GM; AEC-Q100: FALSE; Comparators: 1; Debug Interface: C2; Dig I/O Pins: 16; Flash: 8 kB; Internal Osc. Accuracy: +/-2%; MCU Core: 8051; MHz: 25; PCA Channels: 3; RAM: 0.5 kB; Timers (16-bit): 4; Sub-Family: Capacitive Touch Sense MCUs; DatasheetVersion: Rev. 1.1; PackageReference: QFN-20; PackageDescription: 20-Pin Quad-Flat No-Leads Package, Body 3 x 3 mm, Pitch 0.5 mm; Supplier 1: Digi-Key; Supplier Part Number 1: 336-1942-5-ND; Supplier 2: Mouser; Supplier Part Number 2: 634-C8051F991-GM; Temp Sensor: FALSE; Mounting Technology: Surface Mount; Code_IPC: J-STD-020; ComponentLink1Description: Manufacturer URL; ComponentLink1URL: http://www.silabs.com/; ComponentLink2Description: Datasheet; ComponentLink2URL: http://www.silabs.com/Support Documents/TechnicalDocs/C8051F99x.pdf; ComponentLink3Description: Package Specification; ComponentLink3URL: http://www.silabs.com/Support%20Documents/TechnicalDocs/C8051F99x.pdf
footprint SLAB-QFN-20-1700x1700TP_V (QFN, 20-Leads, Body 3x3mm, Pitch 0.5mm, Thermal Pad 1.7x1.7mm)
pins: 1 P0.1 (io) "Port 0.1.", 2 P0.0 (io) "Port 0.0.", 3 GND (power) "Required Ground.", 4 VDD (power) "Power Supply Voltage. Must be 1.8 to 3.6 V.", 5 ~{RST}/C2CK (io), 6 P2.7/C2D (io), 7 P1.7/XTAL4 (io), 8 P1.6/XTAL3 (io), 9 P1.5 (io) "Port 1.5.", 10 P1.3 (io) "Port 1.3.", 11 P1.2 (io) "Port 1.2.", 12 GND (power) "Required Ground.", 13 P1.1/CP0- (io), 14 P1.0/CP0+ (io), 15 P0.7/IREF0 (io), 16 P0.6 (io) "Port 0.6.", 17 P0.5/RX (io), 18 P0.4/TX (io), 19 P0.3/XTAL2/WAKEOUT (io), 20 P0.2/XTAL1/RTCOUT (io), 21 GND (power) "Required Ground."

## C8051F996-GM
designator U?
Ultra Low Power, Capacitive Sensing MCU, 25 MHz, 0.5 kB RAM, 8 kB Flash, -40 to 85 degC, 24-pin QFN; Manufacturer: Silicon Labs; PartNumber: C8051F996-GM; ADC 1: 12-bit, 10-ch., 75 ksps; AEC-Q100: FALSE; Comparators: 1; Debug Interface: C2; Dig I/O Pins: 17; Flash: 8 kB; Internal Osc. Accuracy: +/-2%; MCU Core: 8051; MHz: 25; PCA Channels: 3; RAM: 0.5 kB; Temp Sensor: TRUE; Timers (16-bit): 4; Sub-Family: Capacitive Touch Sense MCUs; DatasheetVersion: Rev. 1.1; PackageReference: QFN-24; PackageDescription: 24-Pin Quad-Flat No-Leads Package, Body 4 x 4 mm, Pitch 0.5 mm; Supplier 1: Digi-Key; Supplier Part Number 1: 336-1943-5-ND; Supplier 2: Mouser; Supplier Part Number 2: 634-C8051F996-GM; Mounting Technology: Surface Mount; Code_JEDEC: MO-220; Code_IPC: J-STD-020; ComponentLink1Description: Manufacturer URL; ComponentLink1URL: http://www.silabs.com/; ComponentLink2Description: Datasheet; ComponentLink2URL: http://www.silabs.com/Support Documents/TechnicalDocs/C8051F99x.pdf; ComponentLink3Description: Package Specification; ComponentLink3URL: http://www.silabs.com/Support%20Documents/TechnicalDocs/C8051F93x-92x.pdf
footprint SLAB-QFN-24-2675x2675TP_N (QFN, 24-Leads, Body 4x4mm, Pitch 0.5mm, Thermal Pad 2.68x2.68mm, IPC Medium Density)
footprint SLAB-QFN-24-2675x2675TP_L (QFN, 24-Leads, Body 4x4mm, Pitch 0.5mm, Thermal Pad 2.68x2.68mm, IPC High Density)
footprint SLAB-QFN-24-2675x2675TP_M (QFN, 24-Leads, Body 4x4mm, Pitch 0.5mm, Thermal Pad 2.68x2.68mm, IPC Low Density)
pins: 1 NC, 2 GND (power) "Required Ground.", 3 VDD (power) "Power Supply Voltage. Must be 1.8 to 3.6 V", 4 NC, 5 NC, 6 ~{RST}/C2CK (io), 7 P2.7/C2D (io), 8 P1.7/XTAL4 (io), 9 P1.6/XTAL3 (io), 10 NC, 11 P1.5 (io) "Port 1.5. See Section “21. Port Input/Output” on  page 213 for a complete description.", 12 P1.4 (io) "Port 1.4. See Section “21. Port Input/Output” on  page 213 for a complete description.", 13 P1.3 (io) "Port 1.3. See Section “21. Port Input/Output” on  page 213 for a complete description.", 14 P1.2 (io) "Port 1.2. See Section “21. Port Input/Output” on  page 213 for a complete description.", 15 P1.1/CP0- (io), 16 P1.0/CP0+ (io), 17 P0.7/IREF0 (io), 18 P0.6/CNVSTR (io), 19 P0.5/RX (io), 20 P0.4/TX (io), 21 P0.3/XTAL2/WAKEOUT (io), 22 P0.2/XTAL1/RTCOUT (io), 23 P0.1/AGND (io), 24 P0.0/VREF (io), 25 GND (power) "Required Ground."

## C8051F996-GU
designator U?
Ultra Low Power, Capacitive Sensing MCU, 25 MHz, 0.5 kB RAM, 8 kB Flash, -40 to 85 degC, 24-pin SOP; Manufacturer: Silicon Labs; PartNumber: C8051F996-GU; ADC 1: 12-bit, 10-ch., 75 ksps; AEC-Q100: FALSE; Comparators: 1; Debug Interface: C2; Dig I/O Pins: 17; Flash: 8 kB; Internal Osc. Accuracy: +/-2%; MCU Core: 8051; MHz: 25; PCA Channels: 3; RAM: 0.5 kB; Temp Sensor: TRUE; Timers (16-bit): 4; Sub-Family: Capacitive Touch Sense MCUs; DatasheetVersion: Rev. 1.1; PackageReference: QSOP-24; PackageDescription: 24-Pin Quarter-Size Small-Outline Package, Body 8.65 x 3.9 mm, Pitch 0.635 mm; Supplier 1: Digi-Key; Supplier Part Number 1: 336-1944-5-ND; Supplier 2: Mouser; Supplier Part Number 2: 634-C8051F996-GU; Mounting Technology: Surface Mount; Code_JEDEC: MO-147; Code_IPC: J-STD-020; ComponentLink1Description: Manufacturer URL; ComponentLink1URL: http://www.silabs.com/; ComponentLink2Description: Datasheet; ComponentLink2URL: http://www.silabs.com/Support Documents/TechnicalDocs/C8051F99x.pdf; ComponentLink3Description: Package Specification; ComponentLink3URL: http://www.silabs.com/Support%20Documents/TechnicalDocs/C8051F99x.pdf
footprint SLAB-QSOP-24_N (SOP, 24-Leads, Body 8.65x3.9mm, Pitch 0.635mm, IPC Medium Density)
footprint SLAB-QSOP-24_L (SOP, 24-Leads, Body 8.65x3.9mm, Pitch 0.635mm, IPC High Density)
footprint SLAB-QSOP-24_M (SOP, 24-Leads, Body 8.65x3.9mm, Pitch 0.635mm, IPC Low Density)
pins: 1 P0.2/XTAL1/RTCOUT (io), 2 P0.1/AGND (io), 3 P0.0/VREF (io), 4 NC, 5 GND (power) "Required Ground.", 6 VDD (power) "Power Supply Voltage. Must be 1.8 to 3.6 V", 7 NC, 8 NC, 9 ~{RST}/C2CK (io), 10 P2.7/C2D (io), 11 P1.7/XTAL4 (io), 12 P1.6/XTAL3 (io), 13 NC, 14 P1.5 (io) "Port 1.5. See Section “21. Port Input/Output” on  page 213 for a complete description.", 15 P1.4 (io) "Port 1.4. See Section “21. Port Input/Output” on  page 213 for a complete description.", 16 P1.3 (io) "Port 1.3. See Section “21. Port Input/Output” on  page 213 for a complete description.", 17 P1.2 (io) "Port 1.2. See Section “21. Port Input/Output” on  page 213 for a complete description.", 18 P1.1/CP0- (io), 19 P1.0/CP0+ (io), 20 P0.7/IREF0 (io), 21 P0.6/CNVSTR (io), 22 P0.5/RX (io), 23 P0.4/TX (io), 24 P0.3/XTAL2/WAKEOUT (io)

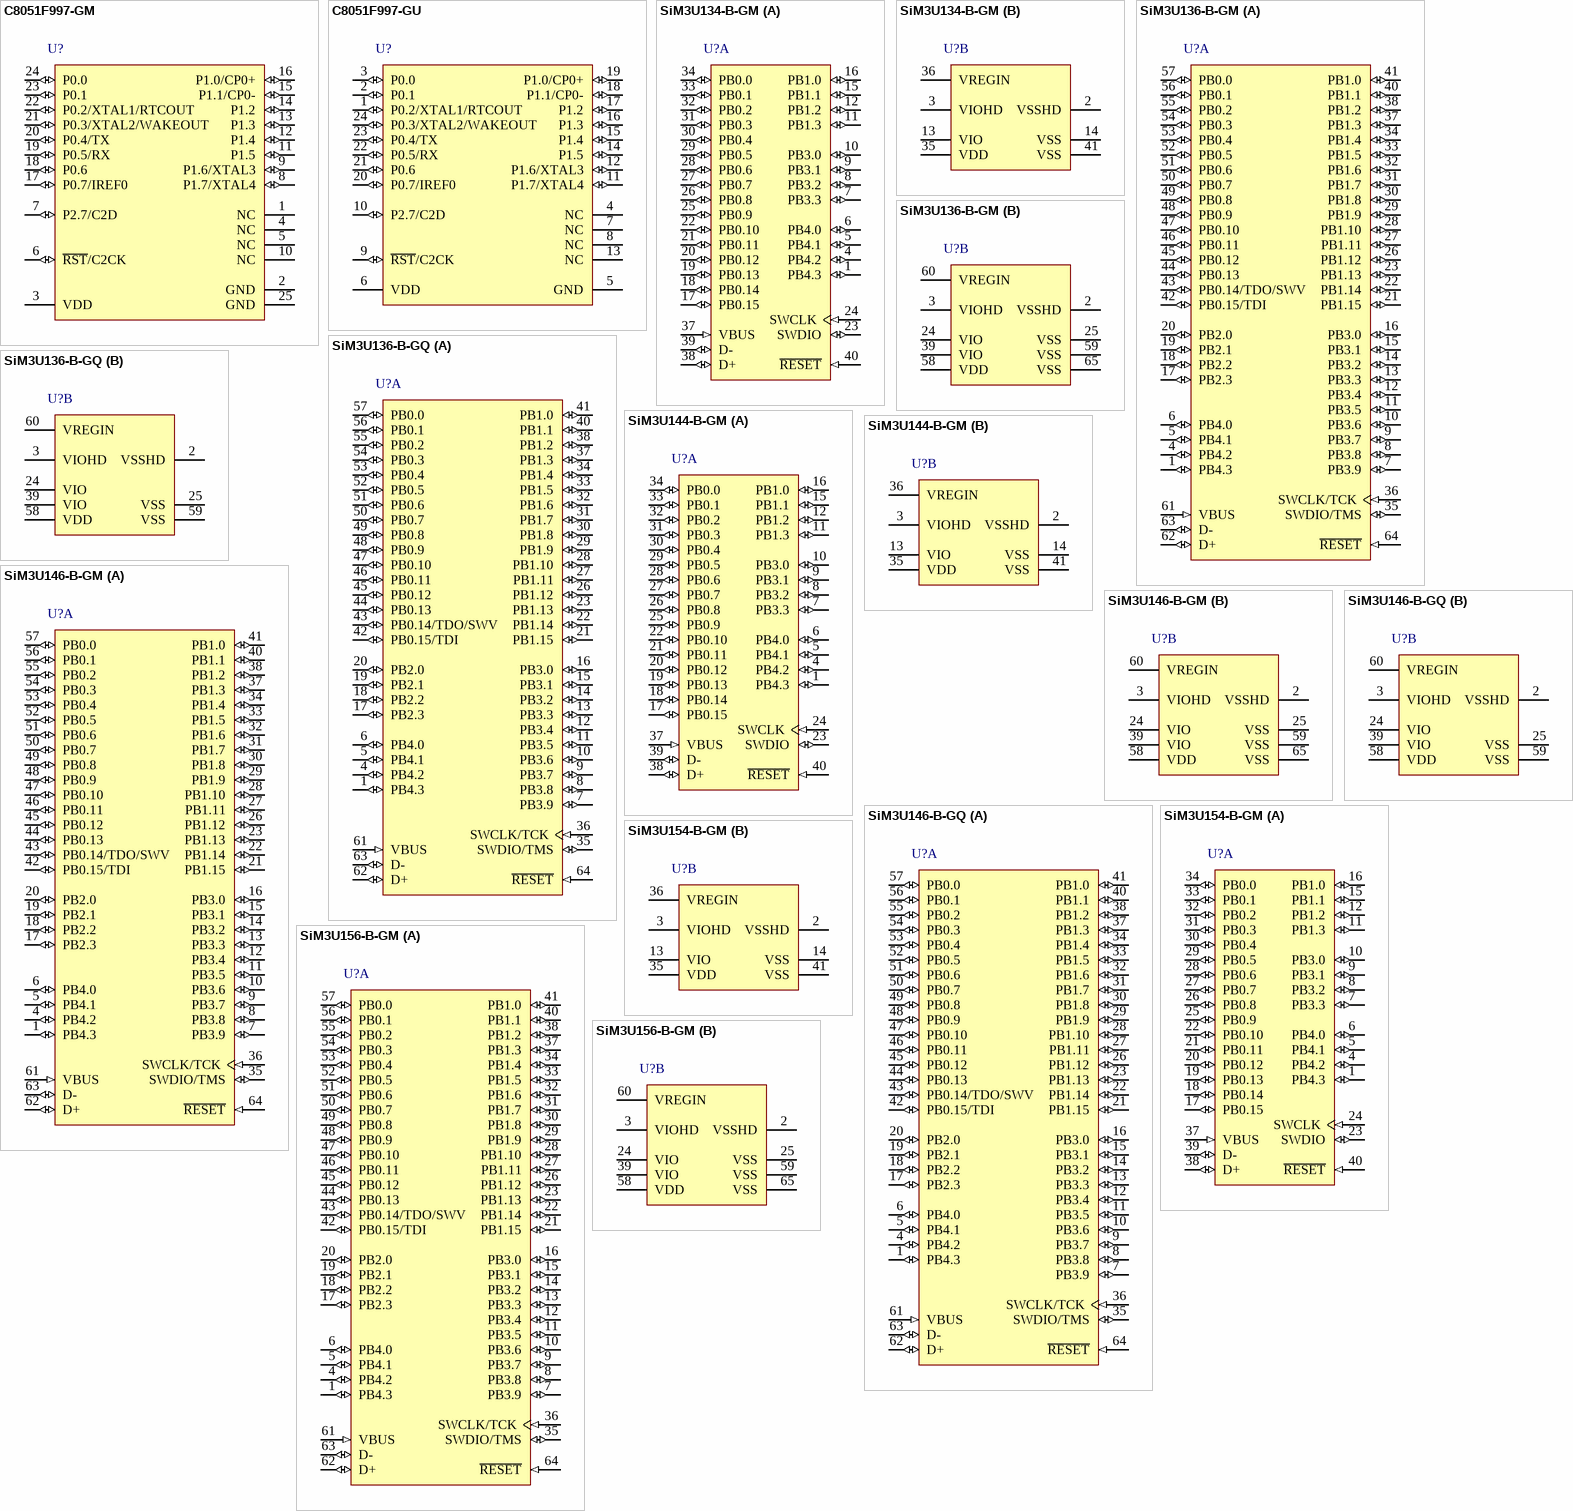
[diagram p4: symbols C8051F997-GM to SiM3U156-B-GM]

## C8051F997-GM
designator U?
Ultra Low Power, Capacitive Sensing MCU, 25 MHz, 0.5 kB RAM, 8 kB Flash, -40 to 85 degC, 24-pin QFN; Manufacturer: Silicon Labs; PartNumber: C8051F997-GM; AEC-Q100: FALSE; Comparators: 1; Debug Interface: C2; Dig I/O Pins: 17; Flash: 8 kB; Internal Osc. Accuracy: +/-2%; MCU Core: 8051; MHz: 25; PCA Channels: 3; RAM: 0.5 kB; Timers (16-bit): 4; Sub-Family: Capacitive Touch Sense MCUs; DatasheetVersion: Rev. 1.1; PackageReference: QFN-24; PackageDescription: 24-Pin Quad-Flat No-Leads Package, Body 4 x 4 mm, Pitch 0.5 mm; Supplier 1: Digi-Key; Supplier Part Number 1: 336-1945-5-ND; Supplier 2: Mouser; Supplier Part Number 2: 634-C8051F997-GM; Temp Sensor: FALSE; Mounting Technology: Surface Mount; Code_JEDEC: MO-220; Code_IPC: J-STD-020; ComponentLink1Description: Manufacturer URL; ComponentLink1URL: http://www.silabs.com/; ComponentLink2Description: Datasheet; ComponentLink2URL: http://www.silabs.com/Support Documents/TechnicalDocs/C8051F99x.pdf; ComponentLink3Description: Package Specification; ComponentLink3URL: http://www.silabs.com/Support%20Documents/TechnicalDocs/C8051F93x-92x.pdf
footprint SLAB-QFN-24-2675x2675TP_N (QFN, 24-Leads, Body 4x4mm, Pitch 0.5mm, Thermal Pad 2.68x2.68mm, IPC Medium Density)
footprint SLAB-QFN-24-2675x2675TP_L (QFN, 24-Leads, Body 4x4mm, Pitch 0.5mm, Thermal Pad 2.68x2.68mm, IPC High Density)
footprint SLAB-QFN-24-2675x2675TP_M (QFN, 24-Leads, Body 4x4mm, Pitch 0.5mm, Thermal Pad 2.68x2.68mm, IPC Low Density)
pins: 1 NC, 2 GND (power) "Required Ground.", 3 VDD (power) "Power Supply Voltage. Must be 1.8 to 3.6 V", 4 NC, 5 NC, 6 ~{RST}/C2CK (io), 7 P2.7/C2D (io), 8 P1.7/XTAL4 (io), 9 P1.6/XTAL3 (io), 10 NC, 11 P1.5 (io) "Port 1.5. See Section ”21. Port Input/Output“ on  page 213 for a complete description.", 12 P1.4 (io) "Port 1.4. See Section ”21. Port Input/Output“ on  page 213 for a complete description.", 13 P1.3 (io) "Port 1.3. See Section ”21. Port Input/Output“ on  page 213 for a complete description.", 14 P1.2 (io) "Port 1.2. See Section “21. Port Input/Output” on  page 213 for a complete description.", 15 P1.1/CP0- (io), 16 P1.0/CP0+ (io), 17 P0.7/IREF0 (io), 18 P0.6 (io) "Port 0.6. See Section "21. Port Input/Output" on  page 213 for a complete description.", 19 P0.5/RX (io), 20 P0.4/TX (io), 21 P0.3/XTAL2/WAKEOUT (io), 22 P0.2/XTAL1/RTCOUT (io), 23 P0.1 (io) "Port 0.1. See Port I/O Section for a complete description.", 24 P0.0 (io) "Port 0.0. See Port I/O Section for a complete description.", 25 GND (power) "Required Ground."

## C8051F997-GU
designator U?
Ultra Low Power, Capacitive Sensing MCU, 25 MHz, 0.5 kB RAM, 8 kB Flash, -40 to 85 degC, 24-pin SOP; Manufacturer: Silicon Labs; PartNumber: C8051F997-GU; AEC-Q100: FALSE; Comparators: 1; Debug Interface: C2; Dig I/O Pins: 17; Flash: 8 kB; Internal Osc. Accuracy: +/-2%; MCU Core: 8051; MHz: 25; PCA Channels: 3; RAM: 0.5 kB; Timers (16-bit): 4; Sub-Family: Capacitive Touch Sense MCUs; DatasheetVersion: Rev. 1.1; PackageReference: QSOP-24; PackageDescription: 24-Pin Quarter-Size Small-Outline Package, Body 8.65 x 3.9 mm, Pitch 0.635 mm; Supplier 1: Digi-Key; Supplier Part Number 1: 336-1946-5-ND; Supplier 2: Mouser; Supplier Part Number 2: 634-C8051F997-GU; Temp Sensor: FALSE; Mounting Technology: Surface Mount; Code_JEDEC: MO-147; Code_IPC: J-STD-020; ComponentLink1Description: Manufacturer URL; ComponentLink1URL: http://www.silabs.com/; ComponentLink2Description: Datasheet; ComponentLink2URL: http://www.silabs.com/Support Documents/TechnicalDocs/C8051F99x.pdf; ComponentLink3Description: Package Specification; ComponentLink3URL: http://www.silabs.com/Support%20Documents/TechnicalDocs/C8051F99x.pdf
footprint SLAB-QSOP-24_N (SOP, 24-Leads, Body 8.65x3.9mm, Pitch 0.635mm, IPC Medium Density)
footprint SLAB-QSOP-24_L (SOP, 24-Leads, Body 8.65x3.9mm, Pitch 0.635mm, IPC High Density)
footprint SLAB-QSOP-24_M (SOP, 24-Leads, Body 8.65x3.9mm, Pitch 0.635mm, IPC Low Density)
pins: 1 P0.2/XTAL1/RTCOUT (io), 2 P0.1 (io) "Port 0.1. See Port I/O Section for a complete description", 3 P0.0 (io) "Port 0.0. See Port I/O Section for a complete description.", 4 NC, 5 GND (power) "Required Ground.", 6 VDD (power) "Power Supply Voltage. Must be 1.8 to 3.6 V", 7 NC, 8 NC, 9 ~{RST}/C2CK (io), 10 P2.7/C2D (io), 11 P1.7/XTAL4 (io), 12 P1.6/XTAL3 (io), 13 NC, 14 P1.5 (io) "Port 1.5. See Section “21. Port Input/Output” on  page 213 for a complete description.", 15 P1.4 (io) "Port 1.4. See Section “21. Port Input/Output” on  page 213 for a complete description.", 16 P1.3 (io) "Port 1.3. See Section “21. Port Input/Output” on  page 213 for a complete description.", 17 P1.2 (io) "Port 1.2. See Section “21. Port Input/Output” on  page 213 for a complete description.", 18 P1.1/CP0- (io), 19 P1.0/CP0+ (io), 20 P0.7/IREF0 (io), 21 P0.6 (io) "Port 0.6. See Section “21. Port Input/Output” on  page 213 for a complete description.", 22 P0.5/RX (io), 23 P0.4/TX (io), 24 P0.3/XTAL2/WAKEOUT (io)